# EAGLE library part NE555DR (library NE555DR)
Single Precision Timer Source: Datasheet <https://g.componentsearchengine.com/Datasheets/0/6648.pdf>
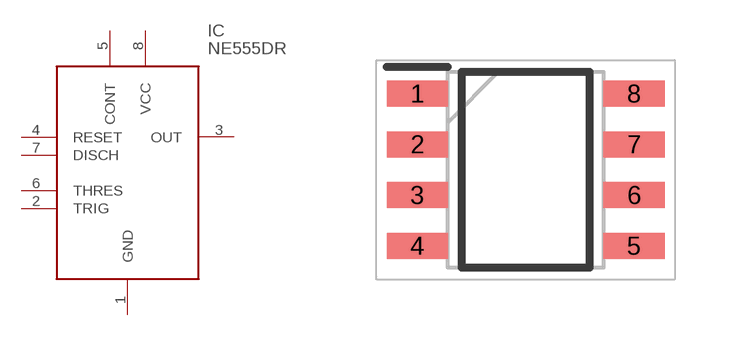
[diagram p0: symbol with the pads of SOIC127P600X175-8N; footprint SOIC127P600X175-8N]

Designator prefix IC

## NE555DR (Description: Single Precision Timer; Height: 1.75mm; Manufacturer_Name: Texas Instruments; Manufacturer_Part_Number: NE555DR; Mouser_Part_Number: 595-NE555DR; Mouser_Price-Stock: https://www.mouser.co.uk/ProductDetail/Texas-Instruments/NE555DR?qs=gb35HGp1gQJ5U8ZthvvoVQ%3D%3D)  [SOIC127P600X175-8N]
1  GND
2  TRIG
3  OUT
4  RESET
5  CONT
6  THRES
7  DISCH
8  VCC

## Footprint SOIC127P600X175-8N (pad centres in mm)
D0008A
smd 1.528 x 0.65: 1 -2.711,1.905; 2 -2.711,0.635; 3 -2.711,-0.635; 4 -2.711,-1.905; 5 2.711,-1.905; 6 2.711,-0.635; 7 2.711,0.635; 8 2.711,1.905